# EAGLE library part LCD (library act-global-nolan)
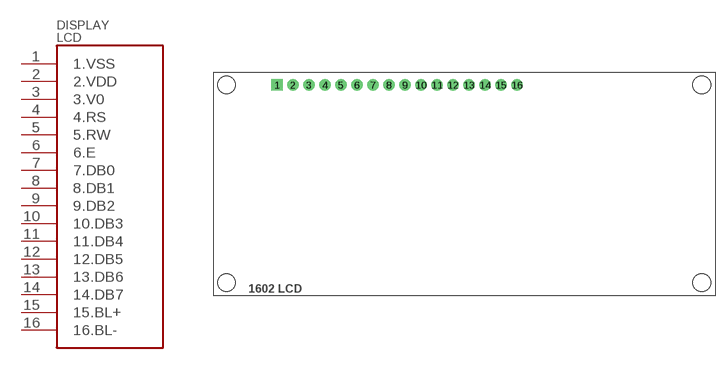
[diagram p29: symbol with the pads of LCD_1602; footprint LCD_1602]

Designator prefix DISPLAY

## LCD  [LCD_1602]
1  1.VSS
2  2.VDD
3  3.V0
4  4.RS
5  5.RW
6  6.E
7  7.DB0
8  8.DB1
9  9.DB2
10  10.DB3
11  11.DB4
12  12.DB5
13  13.DB6
14  14.DB7
15  15.BL+
16  16.BL-

## Footprint LCD_1602 (pad centres in mm)
drill 1.2 square: 1 8,0
drill 1.2: 2 10.54,0; 3 13.08,0; 4 15.62,0; 5 18.16,0; 6 20.7,0; 7 23.24,0; 8 25.78,0; 9 28.32,0; 10 30.86,0; 11 33.4,0; 12 35.94,0; 13 38.48,0; 14 41.02,0; 15 43.56,0; 16 46.1,0
hole 2.8 at 0,0
hole 2.8 at 0,-31.4
hole 2.8 at 75.4,0
hole 2.8 at 75.4,-31.4